# Altium footprint library SOT-23-5.PcbLib: 1 footprints
Each footprint in its own frame and in the unit in brackets; x right, y up, seen from the top. Pads: shape width x height; smd on the part's side, far side on the other; paste and mask are expansions set on the pad; w line width, h text height; cw(c..) or ccw(c..) is an arc to the next point about the centre after c.
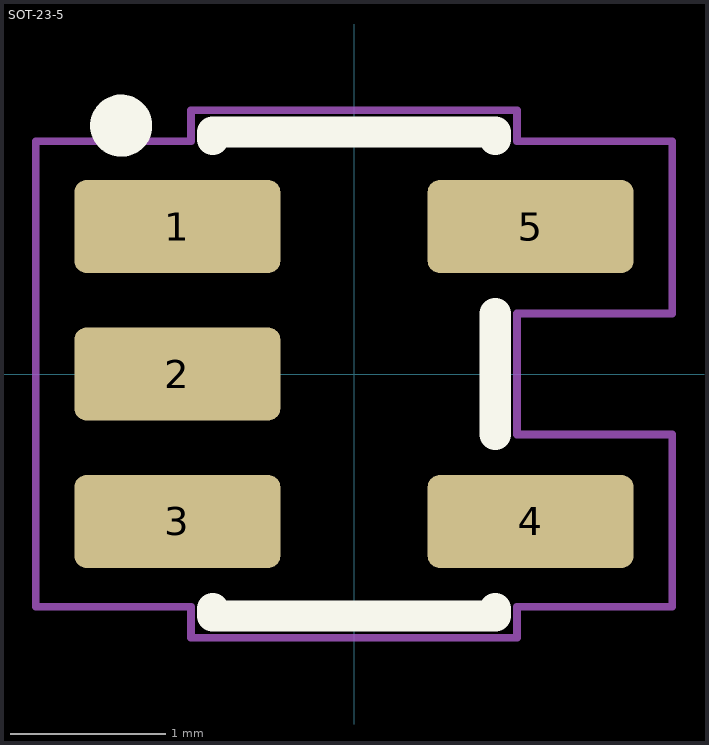
[diagram p0: the footprint, top view; thin cyan lines are the x and y axes]

## SOT-23-5 [mm]
pads (5):
  rrect25% 1.325x0.6 smd: 1(-1.138,0.95) 2(-1.138,0) 3(-1.138,-0.95) 4(1.138,-0.95) 5(1.138,0.95)
F.SilkS:
  circle w0.2: c-1.5,1.6 r0.1
  lines w0.2: -0.91,-1.51 -0.91,-1.56 0.91,-1.56 0.91,-1.51 ; -0.91,1.51 -0.91,1.56 0.91,1.56 0.91,1.51 ; 0.91,-0.39 0.91,0.39
F.CrtYd:
  lines w0.05: -2.05,-1.5 -1.05,-1.5 -1.05,-1.7 1.05,-1.7 1.05,-1.5 2.05,-1.5 2.05,-0.39 1.05,-0.39 1.05,0.39 2.05,0.39 2.05,1.5 1.05,1.5 1.05,1.7 -1.05,1.7 -1.05,1.5 -2.05,1.5 -2.05,-1.5
3D body "SOT-23-5.step": height 1.11, standoff 0.01, extent -1.25,-1.5 1.25,1.5